# Altium schematic symbol library SCH - POWER - MODULE - GAPTEC LCB78.SCHLIB: 1 symbol
Pins are listed as number, name and electrical type; pins without a type are passive.

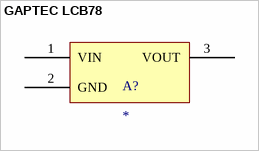
[diagram p0: symbol GAPTEC LCB78]

## GAPTEC LCB78
designator A?
pins: 1 VIN, 2 GND, 3 VOUT